# Altium footprint library LT3045.PcbLib: 1 footprints
Each footprint in its own frame and in the unit in brackets; x right, y up, seen from the top. Pads: shape width x height; smd on the part's side, far side on the other; paste and mask are expansions set on the pad; w line width, h text height; cw(c..) or ccw(c..) is an arc to the next point about the centre after c.
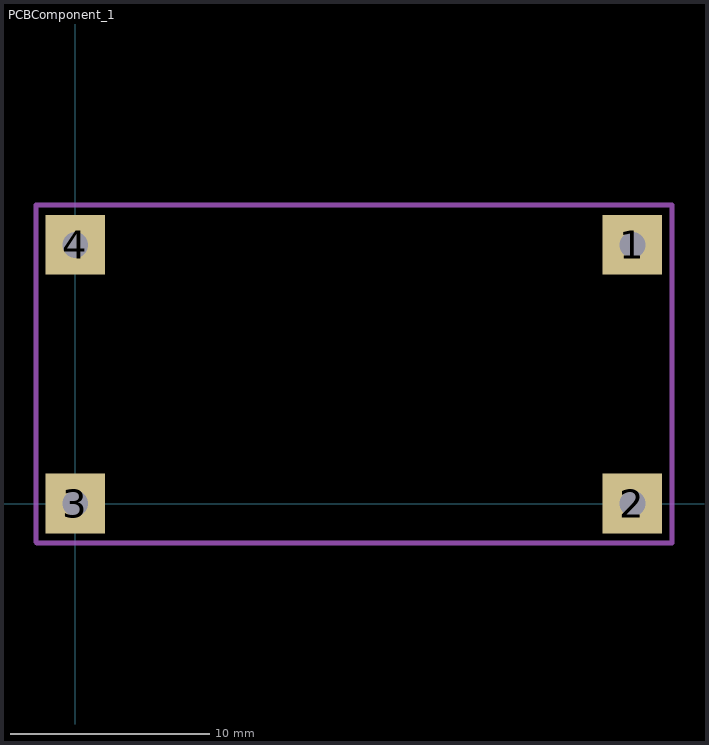
[diagram p0: the footprint, top view; thin cyan lines are the x and y axes]

## PCBComponent_1 [mm]
pads (4):
  rect 3x3 hole 1.3: 1(28,13) 2(28,0) 3(0,0) 4(0,13)
Mechanical 1:
  lines w0.254: -1.979,-1.921 -1.921,-1.979 30,-1.979 30,15 -1.979,15 -1.979,-1.921